# Altium schematic symbol library Parts.SchLib: 4 symbols
Pins are listed as number, name and electrical type; pins without a type are passive.

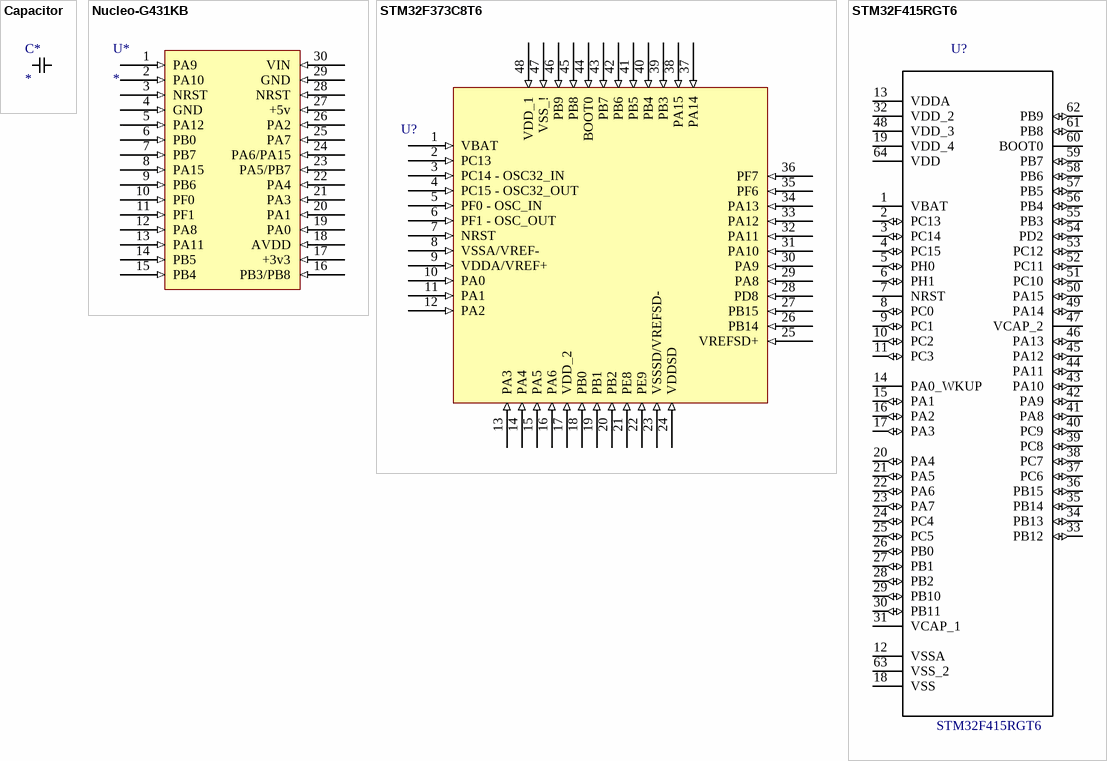
[diagram p0: symbols Capacitor to STM32F415RGT6]

## Capacitor
designator C*
footprint 0805
pins: 1 0, 2 1

## Nucleo-G431KB
designator U*
footprint nucleo
pins: 1 PA9 (in), 2 PA10 (in), 3 NRST (in), 4 GND (in), 5 PA12 (in), 6 PB0 (in), 7 PB7 (in), 8 PA15 (in), 9 PB6 (in), 10 PF0 (in), 11 PF1 (in), 12 PA8 (in), 13 PA11 (in), 14 PB5 (in), 15 PB4 (in), 16 PB3/PB8 (in), 17 +3v3 (in), 18 AVDD (in), 19 PA0 (in), 20 PA1 (in), 21 PA3 (in), 22 PA4 (in), 23 PA5/PB7 (in), 24 PA6/PA15 (in), 25 PA7 (in), 26 PA2 (in), 27 +5v (in), 28 NRST (in), 29 GND (in), 30 VIN (in)

## STM32F373C8T6
designator U?
footprint LQFP48
pins: 1 VBAT (in), 2 PC13 (in), 3 PC14 - OSC32_IN (in), 4 PC15 - OSC32_OUT (in), 5 PF0 - OSC_IN (in), 6 PF1 - OSC_OUT (in), 7 NRST (in), 8 VSSA/VREF- (in), 9 VDDA/VREF+ (in), 10 PA0 (in), 11 PA1 (in), 12 PA2 (in), 13 PA3 (in), 14 PA4 (in), 15 PA5 (in), 16 PA6 (in), 17 VDD_2 (in), 18 PB0 (in), 19 PB1 (in), 20 PB2 (in), 21 PE8 (in), 22 PE9 (in), 23 VSSSD/VREFSD- (in), 24 VDDSD (in), 25 VREFSD+ (in), 26 PB14 (in), 27 PB15 (in), 28 PD8 (in), 29 PA8 (in), 30 PA9 (in), 31 PA10 (in), 32 PA11 (in), 33 PA12 (in), 34 PA13 (in), 35 PF6 (in), 36 PF7 (in), 37 PA14 (in), 38 PA15 (in), 39 PB3 (in), 40 PB4 (in), 41 PB5 (in), 42 PB6 (in), 43 PB7 (in), 44 BOOT0 (in), 45 PB8 (in), 46 PB9 (in), 47 VSS_! (in), 48 VDD_1 (in)

## STM32F415RGT6
designator U?
MCU 32-bit STM32F ARM Cortex M4F RISC 1024KB Flash 2.5V/3.3V 64-Pin LQFP Tray; MF: STMicroelectronics; MP: STM32F415RGT6; Price: None; Package: LQFP-64 STMicroelectronics; Availability: Unavailable; SnapEDA_Link: https://www.snapeda.com/parts/STM32F415RGT6/STMicroelectronics/view-part/?ref=snap; Value: *
footprint LQFP64
pins: 1 VBAT, 2 PC13 (io), 3 PC14 (io), 4 PC15 (io), 5 PH0 (io), 6 PH1 (io), 7 NRST, 8 PC0 (io), 9 PC1 (io), 10 PC2 (io), 11 PC3 (io), 12 VSSA (power), 13 VDDA (power), 14 PA0_WKUP, 15 PA1 (io), 16 PA2 (io), 17 PA3 (io), 18 VSS (power), 19 VDD_4 (power), 20 PA4 (io), 21 PA5 (io), 22 PA6 (io), 23 PA7 (io), 24 PC4 (io), 25 PC5 (io), 26 PB0 (io), 27 PB1 (io), 28 PB2 (io), 29 PB10 (io), 30 PB11 (io), 31 VCAP_1, 32 VDD_2 (power), 33 PB12 (io), 34 PB13 (io), 35 PB14 (io), 36 PB15 (io), 37 PC6 (io), 38 PC7 (io), 39 PC8 (io), 40 PC9 (io), 41 PA8 (io), 42 PA9 (io), 43 PA10 (io), 44 PA11 (io), 45 PA12 (io), 46 PA13 (io), 47 VCAP_2, 48 VDD_3 (power), 49 PA14 (io), 50 PA15 (io), 51 PC10 (io), 52 PC11 (io), 53 PC12 (io), 54 PD2 (io), 55 PB3 (io), 56 PB4 (io), 57 PB5 (io), 58 PB6 (io), 59 PB7 (io), 60 BOOT0, 61 PB8 (io), 62 PB9 (io), 63 VSS_2 (power), 64 VDD (power)